# EAGLE library part EL7104CN (library Intersil_By_element14_Batch_1)
MOSFET Driver
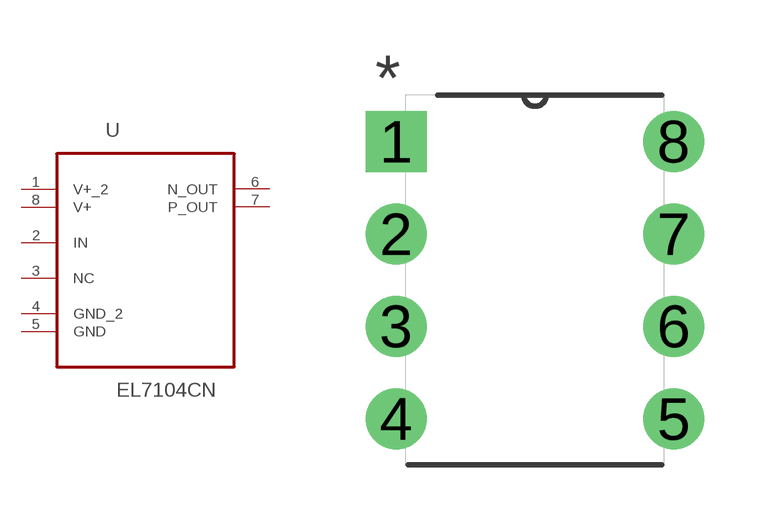
[diagram p62: symbol with the pads of DIP254P762X533-8; footprint DIP254P762X533-8]

Designator prefix U

## EL7104CN (MPN: EL7104CN; OC_FARNELL: -; OC_NEWARK: 31H9454; PACKAGE: PDIP; SUPPLIER: INTERSIL)  [DIP254P762X533-8]
1  V+_2  pwr
2  IN  in
3  NC  nc
4  GND_2  pas
5  GND  pas
6  N_OUT  out
7  P_OUT  out
8  V+  pwr

## Footprint DIP254P762X533-8 (pad centres in mm)
drill 1.118 square: 1 -7.62,7.62
drill 1.118: 2 -7.62,5.08; 3 -7.62,2.54; 4 -7.62,0; 5 0,0; 6 0,2.54; 7 0,5.08; 8 0,7.62